# Altium schematic symbol library PRTR5V0U2X.SchLib: 1 symbol
Pins are listed as number, name and electrical type; pins without a type are passive.

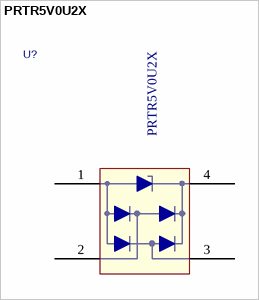
[diagram p0: symbol PRTR5V0U2X]

## PRTR5V0U2X
designator U?
C: Copyright (C) 2015 Accelerated Designs. All rights reserved; Vendor: NXP; Built_By: EMA_UL_Team; Value: PRTR5V0U2X; Manufacturer_Part_Number: PRTR5V0U2X
footprint SOT143B
pins: 1 GND, 2 I/O1, 3 I/O2, 4 VCC